# Altium schematic symbol library SRR1280-150M.SchLib: 1 symbol
Pins are listed as number, name and electrical type; pins without a type are passive.

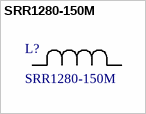
[diagram p0: symbol SRR1280-150M]

## SRR1280-150M
designator L?
Description; Manufacturer_Name: Bourns Electronics; Copyright: Copyright (C) 2025 Ultra Librarian. All rights reserved.; Manufacturer_Part_Number: SRR1280-150M
footprint IND_BOURNS_SRR1280
pins: 1, 2